# Altium footprint library Teensy3_2.PcbLib: 1 footprints
Each footprint in its own frame and in the unit in brackets; x right, y up, seen from the top. Pads: shape width x height; smd on the part's side, far side on the other; paste and mask are expansions set on the pad; w line width, h text height; cw(c..) or ccw(c..) is an arc to the next point about the centre after c.
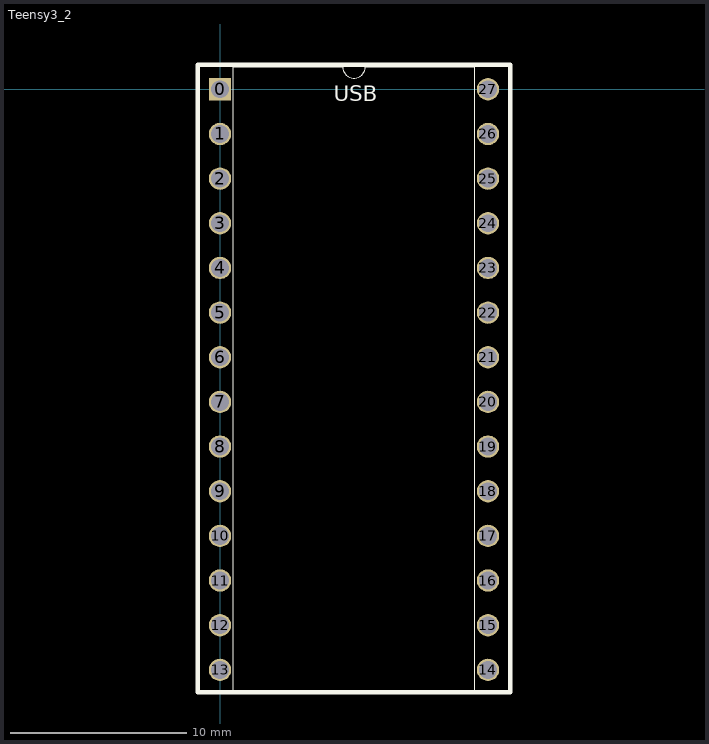
[diagram p0: the footprint, top view; thin cyan lines are the x and y axes]

## Teensy3_2 [mil]
pads (28):
  rect 50x50 / inner rect 100x50 / far side rect 50x50 hole 40: 0(0,0)
  round 50 / inner oval 100x50 / far side round 50 hole 40: 1(0,-100) 2(0,-200) 3(0,-300) 4(0,-400) 5(0,-500) 6(0,-600) 7(0,-700) 8(0,-800) 9(0,-900) 10(0,-1000) 11(0,-1100) 12(0,-1200) 13(0,-1300) 14(600,-1300) 15(600,-1200) 16(600,-1100) 17(600,-1000) 18(600,-900) 19(600,-800) 20(600,-700) 21(600,-600) 22(600,-500) 23(600,-400) 24(600,-300) 25(600,-200) 26(600,-100) 27(600,0)
Top Overlay:
  lines w-20: 30,-1350 30,50 275,50 ccw(c300,50) 325,50 570,50 570,-1350 30,-1350
  lines w10: -50,-1350 650,-1350 650,55 -50,55 -50,-1350
  text "USB" at 255,-39.34 h60